# Altium schematic symbol library SCH - POWER - SWITCHMODE - TI TPS61166_DSK_10.SchLib: 1 symbol
Pins are listed as number, name and electrical type; pins without a type are passive.

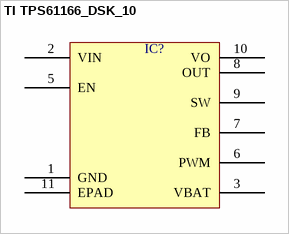
[diagram p0: symbol TI TPS61166_DSK_10]

## TI TPS61166_DSK_10
designator IC?  (value not drawn)
pins: 1 GND, 2 VIN, 3 VBAT, 5 EN, 6 PWM, 7 FB, 8 OUT, 9 SW, 10 VO, 11 EPAD